# EAGLE library part LF412 (library BME_Components)
Low Offset, Low Drift Dual JFET Input Operational Amplifier, 8-pin CerDIP
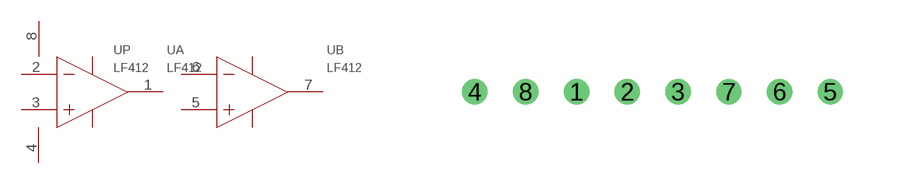
[diagram p29: symbol with the pads of LF412_PDIP-8; footprint LF412_PDIP-8]

Designator prefix U; gates P=LF412_P A=LF412_A B=LF412_B

## LF412LF412_LF412_PDIP-8 (COMPONENTLINK1DESCRIPTION: Datasheet URL; COMPTYPE: Amplifiers; HIGH-RELIABILITY: Y; MANUFACTURER: Texas Instruments; PACKAGEDESCRIPTION: Cerdip, .400 x .310in Body, 8 Lead, .300in Centers, .100in Pitch; PACKAGETOPMARKING: NSZSSXXYYA*LF412MJ/*883 Q; PACKAGE_REFERENCE: NAB0008A; PARTID: 1; PINCOUNT: 8; POWERWISE: N; ROHS: N)  [LF412_PDIP-8]
1  A:OUTA  out
2  A:INA-  in
3  A:INA+  in
4  P:V-  pwr
5  B:INB+  in
6  B:INB-  in
7  B:OUTB  out
8  P:V+  pwr

## Footprint LF412_PDIP-8 (pad centres in mm)
drill 0.127 pad 0.254 round: 1 2.54,0; 2 3.81,0; 3 5.08,0; 4 0,0; 5 8.89,0; 6 7.62,0; 7 6.35,0; 8 1.27,0